# Altium footprint library DFN100X60X40-2N.PcbLib: 1 footprints
Each footprint in its own frame and in the unit in brackets; x right, y up, seen from the top. Pads: shape width x height; smd on the part's side, far side on the other; paste and mask are expansions set on the pad; w line width, h text height; cw(c..) or ccw(c..) is an arc to the next point about the centre after c.
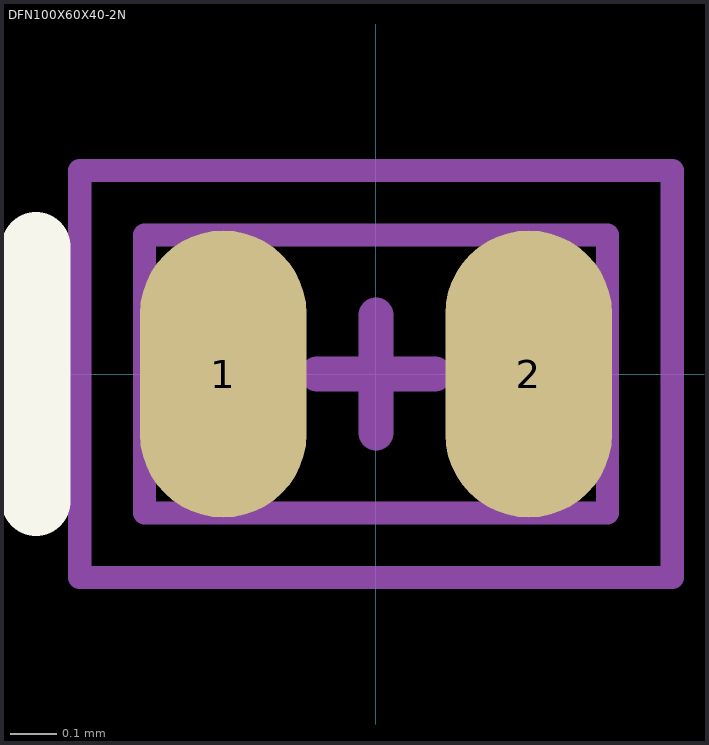
[diagram p0: the footprint, top view; thin cyan lines are the x and y axes]

## DFN100X60X40-2N [mm] "DFN; 2 pin,1.00mm L X 0.60mm W X 0.40mm H, IPC Medium Density"
height 0.4
pads (2):
  oval 0.36x0.62 smd mask+0.05: 1(-0.33,0)
  oval 0.36x0.62 smd mask+0: 2(0.33,0)
Top Overlay:
  lines w0.15: -0.735,-0.275 -0.735,0.275
Top Courtyard:
  lines w0.05: -0.64,-0.44 -0.64,0.44 0.64,0.44 0.64,-0.44 -0.64,-0.44
  lines w0.076: -0.127,0 0.127,0 ; 0,-0.127 0,0.127
Top Assembly:
  lines w0.05: -0.5,-0.3 0.5,-0.3 0.5,0.3 -0.5,0.3 -0.5,-0.3
  lines w0.1: -0.35,-0.17 -0.35,0.18
3D body "DFN100X60X40-2N.stp": height 0.4, standoff 0, extent -0.525,-0.325 0.525,0.325